# EAGLE library part MAX4236 (library op-amp)
OP-AMP Very High Precision, 3V/5V Rail-to-Rail Op Amps
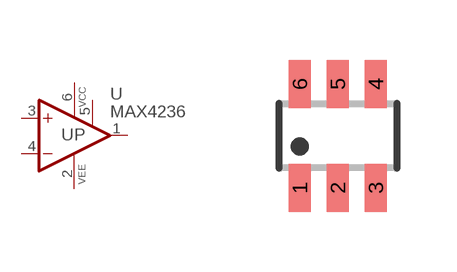
[diagram p78: symbol with the pads of SOT23-6; footprint SOT23-6]

Designator prefix U; gates P=PWR_VCCVEE G$2=_NSHDN G$1=OPAMP_PV

## MAX4236  [SOT23-6]
1  G$1:OUT  out
2  P:VEE  pwr
3  G$1:+IN  in
4  G$1:-IN  in
5  G$2:SHDN  pas
6  P:VCC  pwr

## Footprint SOT23-6 (pad centres in mm)
SOT-23 - DBV 0.95 mm pitch
smd 0.55 x 1.2: 1 -0.95,-1.3; 2 0,-1.3; 3 0.95,-1.3; 4 0.95,1.3; 5 0,1.3; 6 -0.95,1.3